# Altium integrated library ECA1HM220.IntLib: 1 symbol
Pins are listed as number, name and electrical type; pins without a type are passive.

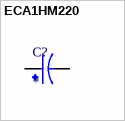
[diagram p0: symbol ECA1HM220]

## ECA1HM220
designator C?
22ÂµF 50V Aluminum Electrolytic Capacitors Radial, Can 2000 Hrs @ 85Â°C; MP: ECA1HM220; MF: Panasonic Electronic; Value: *; SnapEDA_Link: https://www.snapeda.com/parts/ECA1HM220/Panasonic%20Electronic%20Components/view-part/547415/?ref=snap; Availability: In Stock; Package: RADIAL-2 Panasonic; Price: None; Check_prices: https://www.snapeda.com/parts/ECA1HM220/Panasonic%20Electronic%20Components/view-part/547415/?ref=eda; Purchase-URL: https://pricing.snapeda.com/search/part/ECA1HM220/?ref=eda
footprint CAPPRD200W50D500H1100
pins: N, P